# Altium schematic symbol library CR2512AJW-103ELF.SCHLIB: 1 symbol
Pins are listed as number, name and electrical type; pins without a type are passive.

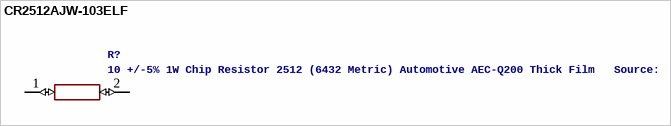
[diagram p0: symbol CR2512AJW-103ELF]

## CR2512AJW-103ELF
designator R?, comment 10 +/-5% 1W Chip Resistor 2512 (6432 Metric) Automotive AEC-Q200 Thick Film   Source:  Datasheet
Manufacturer_Name: Bourns; GateName_1: G$1; SymbolName_1: CR2512AJW-103ELF; LibraryName: CR2512AJW-103ELF; DeviceSetName: CR2512AJW-103ELF; Mouser_Part_Number: 652-CR2512AJW-103ELF; Mouser_Price-Stock: https://www.mouser.co.uk/ProductDetail/Bourns/CR2512AJW-103ELF?qs=GedFDFLaBXEqggePGBQmuQ%3D%3D; Manufacturer_Part_Number: CR2512AJW-103ELF; Description: 10 +/-5% 1W Chip Resistor 2512 (6432 Metric) Automotive AEC-Q200 Thick Film; Height: 0.7mm
footprint RESC6332X70N
pins: 1 (io), 2 (io)